# EAGLE library part TEXAS_INSTRUMENTS-LEVEL_SHIFTER-SN74AVC2T244_DQM_8 (library Module_ICs)
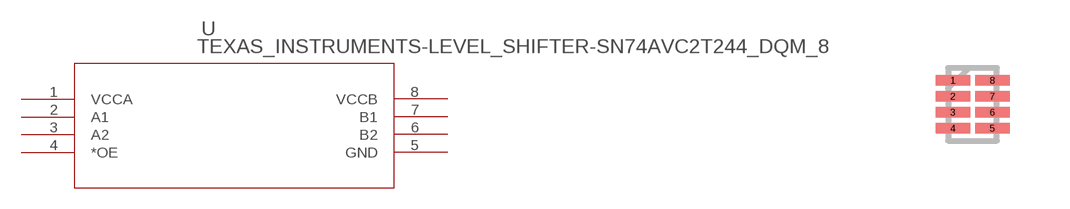
[diagram p4: symbol with the pads of TEXAS_INSTRUMENTS-LEVEL_SHIFTER-SN74AVC2T244_DQM_8; footprint TEXAS_INSTRUMENTS-LEVEL_SHIFTER-SN74AVC2T244_DQM_8]

Designator prefix U

## TEXAS_INSTRUMENTS-LEVEL_SHIFTER-SN74AVC2T244_DQM_8 (DATASHEETURL: httpwww.ti.comlitgpnSN74AVC2T244; FAMILY_NAME: DIRECTION CONTROL DUAL SUPPLY TRANSLATOR; GENERIC_PART_NUMBER: SN74AVC2T244; INDUSTRY_STD_PKG_TYPE: X2SON; MANUFACTURER: Texas Instruments; MANUFACTURER_PART_NUMBER: sn74avc2t244_dqm_8; PACKAGE_DESIGNATOR: DQM; PIN_COUNT: 8; VENDOR: Texas Instruments)  [TEXAS_INSTRUMENTS-LEVEL_SHIFTER-SN74AVC2T244_DQM_8]
1  VCCA  pwr
2  A1
3  A2
4  *OE  in
5  GND  pwr
6  B2
7  B1
8  VCCB  pwr

## Footprint TEXAS_INSTRUMENTS-LEVEL_SHIFTER-SN74AVC2T244_DQM_8 (pad centres in mm)
smd 0.864 x 0.254: 1 -0.495,0.6; 2 -0.495,0.2; 3 -0.495,-0.2; 4 -0.495,-0.6; 5 0.495,-0.6; 6 0.495,-0.2; 7 0.495,0.2; 8 0.495,0.6